# Altium schematic symbol library IC_MIC5209.SchLib: 1 symbol
Pins are listed as number, name and electrical type; pins without a type are passive.

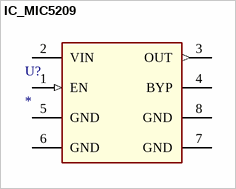
[diagram p0: symbol IC_MIC5209]

## IC_MIC5209
designator U?
pins: 1 EN (in), 2 VIN (power), 3 OUT (out), 4 BYP, 5 GND (power), 6 GND (power), 7 GND (power), 8 GND (power)